# EAGLE library part L293D (library Drinkro)
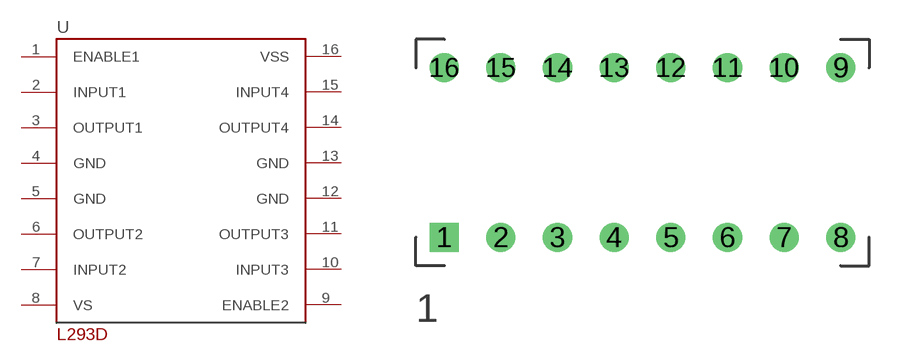
[diagram p0: symbol with the pads of DIP; footprint DIP]

Designator prefix U

## L293D  [DIP]
1  ENABLE1  in
2  INPUT1  in
3  OUTPUT1  out
4  GND
5  GND
6  OUTPUT2  out
7  INPUT2  in
8  VS  pwr
9  ENABLE2  in
10  INPUT3  in
11  OUTPUT3  out
12  GND
13  GND
14  OUTPUT4  out
15  INPUT4  in
16  VSS  pwr

## Footprint DIP (pad centres in mm)
drill 0.8 square: 1 -8.89,-3.81
drill 0.8: 2 -6.35,-3.81; 3 -3.81,-3.81; 4 -1.27,-3.81; 5 1.27,-3.81; 6 3.81,-3.81; 7 6.35,-3.81; 8 8.89,-3.81; 9 8.89,3.81; 10 6.35,3.81; 11 3.81,3.81; 12 1.27,3.81; 13 -1.27,3.81; 14 -3.81,3.81; 15 -6.35,3.81; 16 -8.89,3.81